# Altium schematic symbol library Schlib1.SchLib: 4 symbols
Pins are listed as number, name and electrical type; pins without a type are passive.

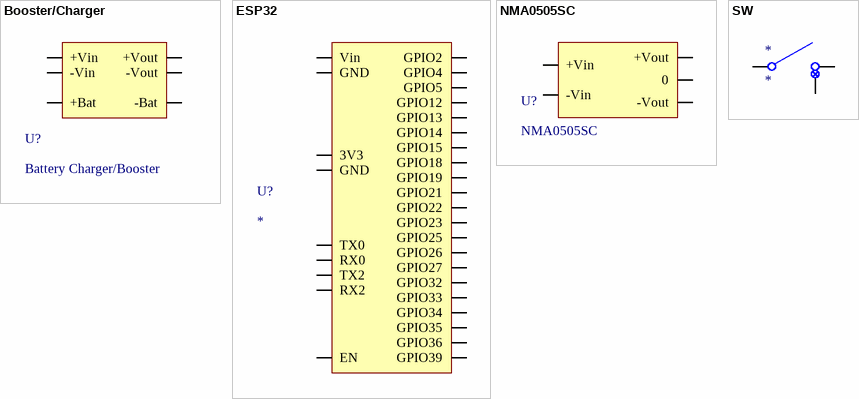
[diagram p0: symbols Booster/Charger to SW]

## Booster/Charger
designator U?, comment Battery Charger/Booster
footprint Batt Chrg/Bst
pins: ?1 +Bat, ?2 -Bat, ?3 +Vout, ?4 -Vout, ?5 +Vin, ?6 -Vin

## ESP32
designator U?
footprint ESP32
pins: 5 GPIO36, 8 GPIO39, 9 EN, 10 GPIO34, 11 GPIO35, 12 GPIO32, 13 GPIO33, 14 GPIO25, 15 GPIO26, 16 GPIO27, 17 GPIO14, 18 GPIO12, 20 GPIO13, 21 GPIO15, 22 GPIO2, 24 GPIO4, 25 RX2, 27 TX2, 34 GPIO5, 35 GPIO18, 36 GPIO23, 38 GPIO19, 39 GPIO22, 40 RX0, 41 TX0, 42 GPIO21, ?1 Vin, ?2 GND, ?3 3V3, ?4 GND

## NMA0505SC
designator U?
DC DC CONVERTER +/-5V 1W
footprint NMA0505SC
pins: ?1 +Vin, ?2 -Vin, ?3 0, ?4 +Vout, ?5 -Vout

## SW
designator *
pins: ?1, ?2, ?3